# Altium footprint library ON Semiconductor Footprints.PcbLib: 123 footprints (part 6 of 8)
Each footprint in its own frame and in the unit in brackets; x right, y up, seen from the top. Pads: shape width x height; smd on the part's side, far side on the other; paste and mask are expansions set on the pad; w line width, h text height; cw(c..) or ccw(c..) is an arc to the next point about the centre after c.
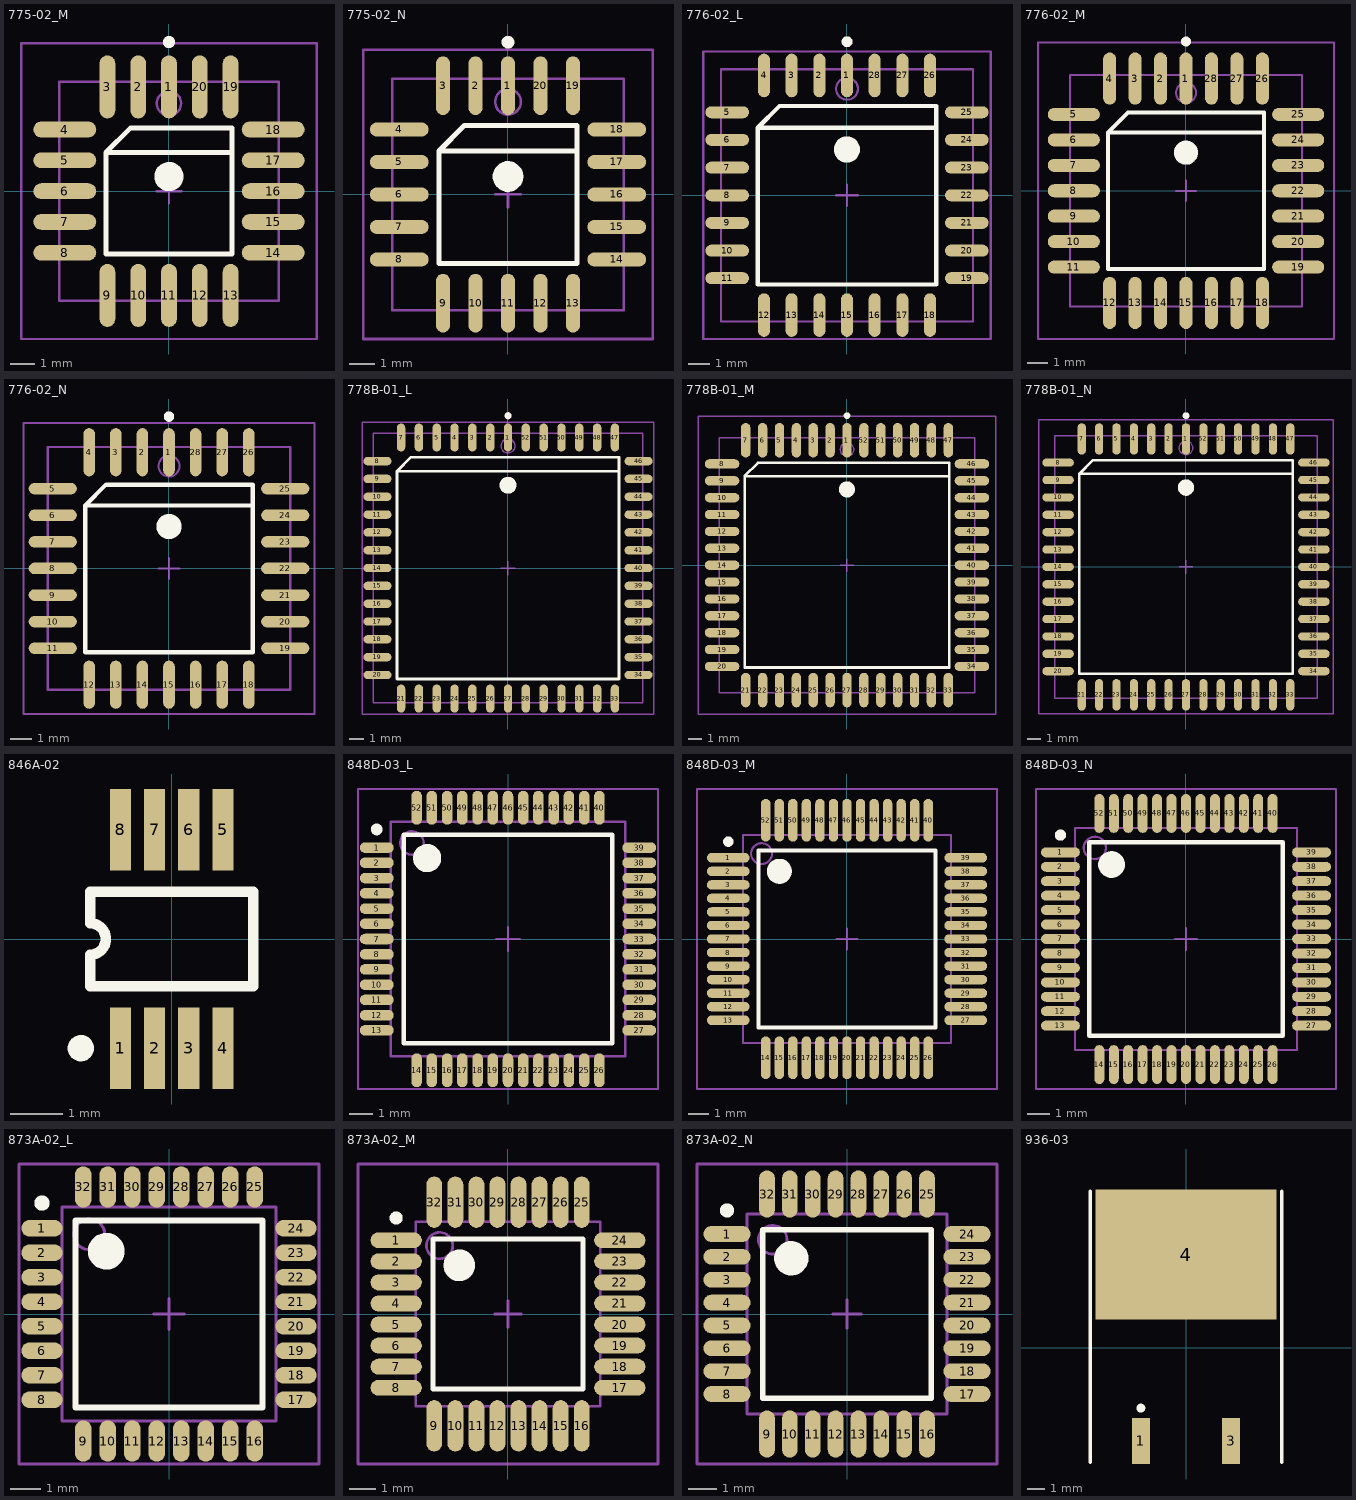
[diagram p5: the footprints below, top view; thin cyan lines are the x and y axes]

## 775-02_M [mm] "20-Pin Leaded Chip Carrier 1.27 mm Pitch, IPC Low Density"
height 4.57
pads (20):
  oval 0.65x2.6 smd: 1(0,4.3) 2(-1.27,4.3) 3(-2.54,4.3) 9(-2.54,-4.3) 10(-1.27,-4.3) 11(0,-4.3) 12(1.27,-4.3) 13(2.54,-4.3) 19(2.54,4.3) 20(1.27,4.3)
  oval 2.6x0.65 smd: 4(-4.3,2.54) 5(-4.3,1.27) 6(-4.3,0) 7(-4.3,-1.27) 8(-4.3,-2.54) 14(4.3,-2.54) 15(4.3,-1.27) 16(4.3,0) 17(4.3,1.27) 18(4.3,2.54)
Top Overlay:
  circle w0.6: c0,0.6 r0.3
  circle w0.25: c0,6.15 r0.125
  lines w0.2: 2.6,1.6 -2.6,1.6 ; -2.6,1.6 -2.6,-2.6 2.6,-2.6 2.6,2.6 -1.6,2.6 -2.6,1.6
Mechanical 13:
  circle w0.1: c0,3.62 r0.5
  lines w0.1: -4.52,-4.52 4.52,-4.52 4.52,4.52 -4.52,4.52 -4.52,-4.52
Mechanical 15:
  lines w0.1: -0.5,0 0.5,0 ; 0,-0.5 0,0.5 ; -6.1,-6.1 6.1,-6.1 6.1,6.1 -6.1,6.1 -6.1,-6.1
3D body: height 4.57, standoff 0, extent -4.52,-4.52 4.52,4.52

## 775-02_N [mm] "20-Pin Leaded Chip Carrier 1.27 mm Pitch, IPC Medium Density"
height 4.57
pads (20):
  oval 0.55x2.3 smd: 1(0,4.25) 2(-1.27,4.25) 3(-2.54,4.25) 9(-2.54,-4.25) 10(-1.27,-4.25) 11(0,-4.25) 12(1.27,-4.25) 13(2.54,-4.25) 19(2.54,4.25) 20(1.27,4.25)
  oval 2.3x0.55 smd: 4(-4.25,2.54) 5(-4.25,1.27) 6(-4.25,0) 7(-4.25,-1.27) 8(-4.25,-2.54) 14(4.25,-2.54) 15(4.25,-1.27) 16(4.25,0) 17(4.25,1.27) 18(4.25,2.54)
Top Overlay:
  circle w0.25: c0,5.95 r0.125
  circle w0.6: c0,0.7 r0.3
  lines w0.2: 2.7,1.7 -2.7,1.7 ; -2.7,1.7 -1.7,2.7 2.7,2.7 2.7,-2.7 -2.7,-2.7 -2.7,1.7
Mechanical 13:
  circle w0.1: c0,3.62 r0.5
  lines w0.1: -4.52,-4.52 -4.52,4.52 4.52,4.52 4.52,-4.52 -4.52,-4.52
Mechanical 15:
  lines w0.1: -0.5,0 0.5,0 ; 0,-0.5 0,0.5 ; -5.65,-5.65 -5.65,5.65 5.65,5.65 5.65,-5.65 -5.65,-5.65
3D body: height 4.57, standoff 0, extent -4.52,-4.52 4.52,4.52

## 776-02_L [mm] "28-Pin Leaded Chip Carrier 1.27 mm Pitch, IPC High Density"
height 4.57
pads (28):
  oval 0.55x2 smd: 1(0,5.5) 2(-1.27,5.5) 3(-2.54,5.5) 4(-3.81,5.5) 12(-3.81,-5.5) 13(-2.54,-5.5) 14(-1.27,-5.5) 15(0,-5.5) 16(1.27,-5.5) 17(2.54,-5.5) 18(3.81,-5.5) 26(3.81,5.5) 27(2.54,5.5) 28(1.27,5.5)
  oval 2x0.55 smd: 5(-5.5,3.81) 6(-5.5,2.54) 7(-5.5,1.27) 8(-5.5,0) 9(-5.5,-1.27) 10(-5.5,-2.54) 11(-5.5,-3.81) 19(5.5,-3.81) 20(5.5,-2.54) 21(5.5,-1.27) 22(5.5,0) 23(5.5,1.27) 24(5.5,2.54) 25(5.5,3.81)
Top Overlay:
  circle w0.25: c0,7.05 r0.125
  circle w0.6: c0,2.1 r0.3
  lines w0.2: 4.1,3.1 -4.1,3.1 ; -4.1,3.1 -3.1,4.1 4.1,4.1 4.1,-4.1 -4.1,-4.1 -4.1,3.1
Mechanical 13:
  circle w0.1: c0,4.89 r0.5
  lines w0.1: -5.79,-5.79 -5.79,5.79 5.79,5.79 5.79,-5.79 -5.79,-5.79
Mechanical 15:
  lines w0.1: -0.5,0 0.5,0 ; 0,-0.5 0,0.5 ; -6.6,-6.6 -6.6,6.6 6.6,6.6 6.6,-6.6 -6.6,-6.6
3D body: height 4.57, standoff 0, extent -5.79,-5.79 5.79,5.79

## 776-02_M [mm] "28-Pin Leaded Chip Carrier 1.27 mm Pitch, IPC Low Density"
height 4.57
pads (28):
  oval 0.65x2.6 smd: 1(0,5.6) 2(-1.27,5.6) 3(-2.54,5.6) 4(-3.81,5.6) 12(-3.81,-5.6) 13(-2.54,-5.6) 14(-1.27,-5.6) 15(0,-5.6) 16(1.27,-5.6) 17(2.54,-5.6) 18(3.81,-5.6) 26(3.81,5.6) 27(2.54,5.6) 28(1.27,5.6)
  oval 2.6x0.65 smd: 5(-5.6,3.81) 6(-5.6,2.54) 7(-5.6,1.27) 8(-5.6,0) 9(-5.6,-1.27) 10(-5.6,-2.54) 11(-5.6,-3.81) 19(5.6,-3.81) 20(5.6,-2.54) 21(5.6,-1.27) 22(5.6,0) 23(5.6,1.27) 24(5.6,2.54) 25(5.6,3.81)
Top Overlay:
  circle w0.25: c0,7.45 r0.125
  circle w0.6: c0,1.9 r0.3
  lines w0.2: 3.9,2.9 -3.9,2.9 ; -3.9,2.9 -2.9,3.9 3.9,3.9 3.9,-3.9 -3.9,-3.9 -3.9,2.9
Mechanical 13:
  circle w0.1: c0,4.89 r0.5
  lines w0.1: -5.79,-5.79 -5.79,5.79 5.79,5.79 5.79,-5.79 -5.79,-5.79
Mechanical 15:
  lines w0.1: -0.5,0 0.5,0 ; 0,-0.5 0,0.5 ; -7.4,-7.4 -7.4,7.4 7.4,7.4 7.4,-7.4 -7.4,-7.4
3D body: height 4.57, standoff 0, extent -5.79,-5.79 5.79,5.79

## 776-02_N [mm] "28-Pin Leaded Chip Carrier 1.27 mm Pitch, IPC Medium Density"
height 4.57
pads (28):
  oval 0.55x2.3 smd: 1(0,5.55) 2(-1.27,5.55) 3(-2.54,5.55) 4(-3.81,5.55) 12(-3.81,-5.55) 13(-2.54,-5.55) 14(-1.27,-5.55) 15(0,-5.55) 16(1.27,-5.55) 17(2.54,-5.55) 18(3.81,-5.55) 26(3.81,5.55) 27(2.54,5.55) 28(1.27,5.55)
  oval 2.3x0.55 smd: 5(-5.55,3.81) 6(-5.55,2.54) 7(-5.55,1.27) 8(-5.55,0) 9(-5.55,-1.27) 10(-5.55,-2.54) 11(-5.55,-3.81) 19(5.55,-3.81) 20(5.55,-2.54) 21(5.55,-1.27) 22(5.55,0) 23(5.55,1.27) 24(5.55,2.54) 25(5.55,3.81)
Top Overlay:
  circle w0.25: c0,7.25 r0.125
  circle w0.6: c0,2 r0.3
  lines w0.2: 4,3 -4,3 ; -4,3 -3,4 4,4 4,-4 -4,-4 -4,3
Mechanical 13:
  circle w0.1: c0,4.89 r0.5
  lines w0.1: -5.79,-5.79 -5.79,5.79 5.79,5.79 5.79,-5.79 -5.79,-5.79
Mechanical 15:
  lines w0.1: -0.5,0 0.5,0 ; 0,-0.5 0,0.5 ; -6.95,-6.95 -6.95,6.95 6.95,6.95 6.95,-6.95 -6.95,-6.95
3D body: height 4.57, standoff 0, extent -5.79,-5.79 5.79,5.79

## 778B-01_L [mm] "52-Pin Leaded Chip Carrier 1.27 mm Pitch, IPC High Density"
height 5.08
pads (52):
  oval 0.6x2 smd: 1(0,9.3) 2(-1.27,9.3) 3(-2.54,9.3) 4(-3.81,9.3) 5(-5.08,9.3) 6(-6.35,9.3) 7(-7.62,9.3) 21(-7.62,-9.3) 22(-6.35,-9.3) 23(-5.08,-9.3) 24(-3.81,-9.3) 25(-2.54,-9.3) 26(-1.27,-9.3) 27(0,-9.3) 28(1.27,-9.3) 29(2.54,-9.3) 30(3.81,-9.3) 31(5.08,-9.3) 32(6.35,-9.3) 33(7.62,-9.3) 47(7.62,9.3) 48(6.35,9.3) 49(5.08,9.3) 50(3.81,9.3) 51(2.54,9.3) 52(1.27,9.3)
  oval 2x0.6 smd: 8(-9.3,7.62) 9(-9.3,6.35) 10(-9.3,5.08) 11(-9.3,3.81) 12(-9.3,2.54) 13(-9.3,1.27) 14(-9.3,0) 15(-9.3,-1.27) 16(-9.3,-2.54) 17(-9.3,-3.81) 18(-9.3,-5.08) 19(-9.3,-6.35) 20(-9.3,-7.62) 34(9.3,-7.62) 35(9.3,-6.35) 36(9.3,-5.08) 37(9.3,-3.81) 38(9.3,-2.54) 39(9.3,-1.27) 40(9.3,0) 41(9.3,1.27) 42(9.3,2.54) 43(9.3,3.81) 44(9.3,5.08) 45(9.3,6.35) 46(9.3,7.62)
Top Overlay:
  circle w0.25: c0,10.85 r0.125
  circle w0.6: c0,5.9 r0.3
  lines w0.2: 7.9,6.9 -7.9,6.9 ; -7.9,6.9 -6.9,7.9 7.9,7.9 7.9,-7.9 -7.9,-7.9 -7.9,6.9
Mechanical 13:
  circle w0.1: c0,8.7 r0.5
  lines w0.1: -9.6,-9.6 -9.6,9.6 9.6,9.6 9.6,-9.6 -9.6,-9.6
Mechanical 15:
  lines w0.1: -0.5,0 0.5,0 ; 0,-0.5 0,0.5 ; -10.4,-10.4 -10.4,10.4 10.4,10.4 10.4,-10.4 -10.4,-10.4
3D body: height 5.08, standoff 0, extent -9.6,-9.6 9.6,9.6

## 778B-01_M [mm] "52-Pin Leaded Chip Carrier 1.27 mm Pitch, IPC Low Density"
height 5.08
pads (52):
  oval 0.7x2.6 smd: 1(0,9.4) 2(-1.27,9.4) 3(-2.54,9.4) 4(-3.81,9.4) 5(-5.08,9.4) 6(-6.35,9.4) 7(-7.62,9.4) 21(-7.62,-9.4) 22(-6.35,-9.4) 23(-5.08,-9.4) 24(-3.81,-9.4) 25(-2.54,-9.4) 26(-1.27,-9.4) 27(0,-9.4) 28(1.27,-9.4) 29(2.54,-9.4) 30(3.81,-9.4) 31(5.08,-9.4) 32(6.35,-9.4) 33(7.62,-9.4) 47(7.62,9.4) 48(6.35,9.4) 49(5.08,9.4) 50(3.81,9.4) 51(2.54,9.4) 52(1.27,9.4)
  oval 2.6x0.7 smd: 8(-9.4,7.62) 9(-9.4,6.35) 10(-9.4,5.08) 11(-9.4,3.81) 12(-9.4,2.54) 13(-9.4,1.27) 14(-9.4,0) 15(-9.4,-1.27) 16(-9.4,-2.54) 17(-9.4,-3.81) 18(-9.4,-5.08) 19(-9.4,-6.35) 20(-9.4,-7.62) 34(9.4,-7.62) 35(9.4,-6.35) 36(9.4,-5.08) 37(9.4,-3.81) 38(9.4,-2.54) 39(9.4,-1.27) 40(9.4,0) 41(9.4,1.27) 42(9.4,2.54) 43(9.4,3.81) 44(9.4,5.08) 45(9.4,6.35) 46(9.4,7.62)
Top Overlay:
  circle w0.25: c0,11.25 r0.125
  circle w0.6: c0,5.7 r0.3
  lines w0.2: 7.7,6.7 -7.7,6.7 ; -7.7,6.7 -6.7,7.7 7.7,7.7 7.7,-7.7 -7.7,-7.7 -7.7,6.7
Mechanical 13:
  circle w0.1: c0,8.7 r0.5
  lines w0.1: -9.6,-9.6 -9.6,9.6 9.6,9.6 9.6,-9.6 -9.6,-9.6
Mechanical 15:
  lines w0.1: -0.5,0 0.5,0 ; 0,-0.5 0,0.5 ; -11.2,-11.2 -11.2,11.2 11.2,11.2 11.2,-11.2 -11.2,-11.2
3D body: height 5.08, standoff 0, extent -9.6,-9.6 9.6,9.6

## 778B-01_N [mm] "52-Pin Leaded Chip Carrier 1.27 mm Pitch, IPC Medium Density"
height 5.08
pads (52):
  oval 0.6x2.3 smd: 1(0,9.35) 2(-1.27,9.35) 3(-2.54,9.35) 4(-3.81,9.35) 5(-5.08,9.35) 6(-6.35,9.35) 7(-7.62,9.35) 21(-7.62,-9.35) 22(-6.35,-9.35) 23(-5.08,-9.35) 24(-3.81,-9.35) 25(-2.54,-9.35) 26(-1.27,-9.35) 27(0,-9.35) 28(1.27,-9.35) 29(2.54,-9.35) 30(3.81,-9.35) 31(5.08,-9.35) 32(6.35,-9.35) 33(7.62,-9.35) 47(7.62,9.35) 48(6.35,9.35) 49(5.08,9.35) 50(3.81,9.35) 51(2.54,9.35) 52(1.27,9.35)
  oval 2.3x0.6 smd: 8(-9.35,7.62) 9(-9.35,6.35) 10(-9.35,5.08) 11(-9.35,3.81) 12(-9.35,2.54) 13(-9.35,1.27) 14(-9.35,0) 15(-9.35,-1.27) 16(-9.35,-2.54) 17(-9.35,-3.81) 18(-9.35,-5.08) 19(-9.35,-6.35) 20(-9.35,-7.62) 34(9.35,-7.62) 35(9.35,-6.35) 36(9.35,-5.08) 37(9.35,-3.81) 38(9.35,-2.54) 39(9.35,-1.27) 40(9.35,0) 41(9.35,1.27) 42(9.35,2.54) 43(9.35,3.81) 44(9.35,5.08) 45(9.35,6.35) 46(9.35,7.62)
Top Overlay:
  circle w0.25: c0,11.05 r0.125
  circle w0.6: c0,5.8 r0.3
  lines w0.2: 7.8,6.8 -7.8,6.8 ; -7.8,6.8 -6.8,7.8 7.8,7.8 7.8,-7.8 -7.8,-7.8 -7.8,6.8
Mechanical 13:
  circle w0.1: c0,8.7 r0.5
  lines w0.1: -9.6,-9.6 -9.6,9.6 9.6,9.6 9.6,-9.6 -9.6,-9.6
Mechanical 15:
  lines w0.1: -0.5,0 0.5,0 ; 0,-0.5 0,0.5 ; -10.75,-10.75 -10.75,10.75 10.75,10.75 10.75,-10.75 -10.75,-10.75
3D body: height 5.08, standoff 0, extent -9.6,-9.6 9.6,9.6

## 846A-02 [mm] "Shrink Small Outline; 8 Leads; Body Width 3 mm; Pitch 0.65 mm"
height 1.1
pads (8):
  rect 0.4x1.55 smd: 1(-0.975,-2.075) 2(-0.325,-2.075) 3(0.325,-2.075) 4(0.975,-2.075) 5(0.975,2.075) 6(0.325,2.075) 7(-0.325,2.075) 8(-0.975,2.075)
Top Overlay:
  circle w0.25: c-1.725,-2.075 r0.125
  lines w0.2: -1.55,-0.9 1.55,-0.9 1.55,0.9 -1.55,0.9 -1.55,0.3 cw(c-1.55,0) -1.55,-0.3 -1.55,-0.9

## 848D-03_L [mm] "52-Pin Quad Flat Pack 0.65 mm Pitch, IPC High Density"
height 1.7
pads (52):
  oval 1.45x0.45 smd: 1(-5.6,3.9) 2(-5.6,3.25) 3(-5.6,2.6) 4(-5.6,1.95) 5(-5.6,1.3) 6(-5.6,0.65) 7(-5.6,0) 8(-5.6,-0.65) 9(-5.6,-1.3) 10(-5.6,-1.95) 11(-5.6,-2.6) 12(-5.6,-3.25) 13(-5.6,-3.9) 27(5.6,-3.9) 28(5.6,-3.25) 29(5.6,-2.6) 30(5.6,-1.95) 31(5.6,-1.3) 32(5.6,-0.65) 33(5.6,0) 34(5.6,0.65) 35(5.6,1.3) 36(5.6,1.95) 37(5.6,2.6) 38(5.6,3.25) 39(5.6,3.9)
  oval 0.45x1.45 smd: 14(-3.9,-5.6) 15(-3.25,-5.6) 16(-2.6,-5.6) 17(-1.95,-5.6) 18(-1.3,-5.6) 19(-0.65,-5.6) 20(0,-5.6) 21(0.65,-5.6) 22(1.3,-5.6) 23(1.95,-5.6) 24(2.6,-5.6) 25(3.25,-5.6) 26(3.9,-5.6) 40(3.9,5.6) 41(3.25,5.6) 42(2.6,5.6) 43(1.95,5.6) 44(1.3,5.6) 45(0.65,5.6) 46(0,5.6) 47(-0.65,5.6) 48(-1.3,5.6) 49(-1.95,5.6) 50(-2.6,5.6) 51(-3.25,5.6) 52(-3.9,5.6)
Top Overlay:
  circle w0.25: c-5.6,4.675 r0.125
  circle w0.6: c-3.45,3.45 r0.3
  lines w0.2: -4.45,-4.45 -4.45,4.45 4.45,4.45 4.45,-4.45 -4.45,-4.45
Mechanical 13:
  circle w0.1: c-4.1,4.1 r0.5
  lines w0.1: -5,-5 -5,5 5,5 5,-5 -5,-5
Mechanical 15:
  lines w0.1: -0.5,0 0.5,0 ; 0,-0.5 0,0.5 ; -6.4,-6.4 -6.4,6.4 6.4,6.4 6.4,-6.4 -6.4,-6.4
3D body: height 1.7, standoff 0, extent -5,-5 5,5

## 848D-03_M [mm] "52-Pin Quad Flat Pack 0.65 mm Pitch, IPC Low Density"
height 1.7
pads (52):
  oval 2.05x0.45 smd: 1(-5.7,3.9) 2(-5.7,3.25) 3(-5.7,2.6) 4(-5.7,1.95) 5(-5.7,1.3) 6(-5.7,0.65) 7(-5.7,0) 8(-5.7,-0.65) 9(-5.7,-1.3) 10(-5.7,-1.95) 11(-5.7,-2.6) 12(-5.7,-3.25) 13(-5.7,-3.9) 27(5.7,-3.9) 28(5.7,-3.25) 29(5.7,-2.6) 30(5.7,-1.95) 31(5.7,-1.3) 32(5.7,-0.65) 33(5.7,0) 34(5.7,0.65) 35(5.7,1.3) 36(5.7,1.95) 37(5.7,2.6) 38(5.7,3.25) 39(5.7,3.9)
  oval 0.45x2.05 smd: 14(-3.9,-5.7) 15(-3.25,-5.7) 16(-2.6,-5.7) 17(-1.95,-5.7) 18(-1.3,-5.7) 19(-0.65,-5.7) 20(0,-5.7) 21(0.65,-5.7) 22(1.3,-5.7) 23(1.95,-5.7) 24(2.6,-5.7) 25(3.25,-5.7) 26(3.9,-5.7) 40(3.9,5.7) 41(3.25,5.7) 42(2.6,5.7) 43(1.95,5.7) 44(1.3,5.7) 45(0.65,5.7) 46(0,5.7) 47(-0.65,5.7) 48(-1.3,5.7) 49(-1.95,5.7) 50(-2.6,5.7) 51(-3.25,5.7) 52(-3.9,5.7)
Top Overlay:
  circle w0.25: c-5.7,4.675 r0.125
  circle w0.6: c-3.25,3.25 r0.3
  lines w0.2: -4.25,-4.25 -4.25,4.25 4.25,4.25 4.25,-4.25 -4.25,-4.25
Mechanical 13:
  circle w0.1: c-4.1,4.1 r0.5
  lines w0.1: -5,-5 -5,5 5,5 5,-5 -5,-5
Mechanical 15:
  lines w0.1: -0.5,0 0.5,0 ; 0,-0.5 0,0.5 ; -7.2,-7.2 -7.2,7.2 7.2,7.2 7.2,-7.2 -7.2,-7.2
3D body: height 1.7, standoff 0, extent -5,-5 5,5

## 848D-03_N [mm] "52-Pin Quad Flat Pack 0.65 mm Pitch, IPC Medium Density"
height 1.7
pads (52):
  oval 1.75x0.45 smd: 1(-5.65,3.9) 2(-5.65,3.25) 3(-5.65,2.6) 4(-5.65,1.95) 5(-5.65,1.3) 6(-5.65,0.65) 7(-5.65,0) 8(-5.65,-0.65) 9(-5.65,-1.3) 10(-5.65,-1.95) 11(-5.65,-2.6) 12(-5.65,-3.25) 13(-5.65,-3.9) 27(5.65,-3.9) 28(5.65,-3.25) 29(5.65,-2.6) 30(5.65,-1.95) 31(5.65,-1.3) 32(5.65,-0.65) 33(5.65,0) 34(5.65,0.65) 35(5.65,1.3) 36(5.65,1.95) 37(5.65,2.6) 38(5.65,3.25) 39(5.65,3.9)
  oval 0.45x1.75 smd: 14(-3.9,-5.65) 15(-3.25,-5.65) 16(-2.6,-5.65) 17(-1.95,-5.65) 18(-1.3,-5.65) 19(-0.65,-5.65) 20(0,-5.65) 21(0.65,-5.65) 22(1.3,-5.65) 23(1.95,-5.65) 24(2.6,-5.65) 25(3.25,-5.65) 26(3.9,-5.65) 40(3.9,5.65) 41(3.25,5.65) 42(2.6,5.65) 43(1.95,5.65) 44(1.3,5.65) 45(0.65,5.65) 46(0,5.65) 47(-0.65,5.65) 48(-1.3,5.65) 49(-1.95,5.65) 50(-2.6,5.65) 51(-3.25,5.65) 52(-3.9,5.65)
Top Overlay:
  circle w0.25: c-5.65,4.675 r0.125
  circle w0.6: c-3.35,3.35 r0.3
  lines w0.2: -4.35,-4.35 -4.35,4.35 4.35,4.35 4.35,-4.35 -4.35,-4.35
Mechanical 13:
  circle w0.1: c-4.1,4.1 r0.5
  lines w0.1: -5,-5 -5,5 5,5 5,-5 -5,-5
Mechanical 15:
  lines w0.1: -0.5,0 0.5,0 ; 0,-0.5 0,0.5 ; -6.75,-6.75 -6.75,6.75 6.75,6.75 6.75,-6.75 -6.75,-6.75
3D body: height 1.7, standoff 0, extent -5,-5 5,5

## 873A-02_L [mm] "32-Pin Thin Quad Flat Pack 0.8 mm Pitch, IPC High Density"
height 1.6
pads (32):
  oval 1.35x0.55 smd: 1(-4.15,2.8) 2(-4.15,2) 3(-4.15,1.2) 4(-4.15,0.4) 5(-4.15,-0.4) 6(-4.15,-1.2) 7(-4.15,-2) 8(-4.15,-2.8) 17(4.15,-2.8) 18(4.15,-2) 19(4.15,-1.2) 20(4.15,-0.4) 21(4.15,0.4) 22(4.15,1.2) 23(4.15,2) 24(4.15,2.8)
  oval 0.55x1.35 smd: 9(-2.8,-4.15) 10(-2,-4.15) 11(-1.2,-4.15) 12(-0.4,-4.15) 13(0.4,-4.15) 14(1.2,-4.15) 15(2,-4.15) 16(2.8,-4.15) 25(2.8,4.15) 26(2,4.15) 27(1.2,4.15) 28(0.4,4.15) 29(-0.4,4.15) 30(-1.2,4.15) 31(-2,4.15) 32(-2.8,4.15)
Top Overlay:
  circle w0.25: c-4.15,3.625 r0.125
  circle w0.6: c-2.05,2.05 r0.3
  lines w0.2: -3.05,-3.05 -3.05,3.05 3.05,3.05 3.05,-3.05 -3.05,-3.05
Mechanical 13:
  circle w0.1: c-2.6,2.6 r0.5
  lines w0.1: -3.5,-3.5 -3.5,3.5 3.5,3.5 3.5,-3.5 -3.5,-3.5
Mechanical 15:
  lines w0.1: -0.5,0 0.5,0 ; 0,-0.5 0,0.5 ; -4.9,-4.9 -4.9,4.9 4.9,4.9 4.9,-4.9 -4.9,-4.9
3D body: height 1.6, standoff 0, extent -3.5,-3.5 3.5,3.5

## 873A-02_M [mm] "32-Pin Thin Quad Flat Pack 0.8 mm Pitch, IPC Low Density"
height 1.6
pads (32):
  oval 1.95x0.6 smd: 1(-4.25,2.8) 2(-4.25,2) 3(-4.25,1.2) 4(-4.25,0.4) 5(-4.25,-0.4) 6(-4.25,-1.2) 7(-4.25,-2) 8(-4.25,-2.8) 17(4.25,-2.8) 18(4.25,-2) 19(4.25,-1.2) 20(4.25,-0.4) 21(4.25,0.4) 22(4.25,1.2) 23(4.25,2) 24(4.25,2.8)
  oval 0.6x1.95 smd: 9(-2.8,-4.25) 10(-2,-4.25) 11(-1.2,-4.25) 12(-0.4,-4.25) 13(0.4,-4.25) 14(1.2,-4.25) 15(2,-4.25) 16(2.8,-4.25) 25(2.8,4.25) 26(2,4.25) 27(1.2,4.25) 28(0.4,4.25) 29(-0.4,4.25) 30(-1.2,4.25) 31(-2,4.25) 32(-2.8,4.25)
Top Overlay:
  circle w0.25: c-4.25,3.65 r0.125
  circle w0.6: c-1.85,1.85 r0.3
  lines w0.2: -2.85,-2.85 -2.85,2.85 2.85,2.85 2.85,-2.85 -2.85,-2.85
Mechanical 13:
  circle w0.1: c-2.6,2.6 r0.5
  lines w0.1: -3.5,-3.5 -3.5,3.5 3.5,3.5 3.5,-3.5 -3.5,-3.5
Mechanical 15:
  lines w0.1: -0.5,0 0.5,0 ; 0,-0.5 0,0.5 ; -5.7,-5.7 -5.7,5.7 5.7,5.7 5.7,-5.7 -5.7,-5.7
3D body: height 1.6, standoff 0, extent -3.5,-3.5 3.5,3.5

## 873A-02_N [mm] "32-Pin Thin Quad Flat Pack 0.8 mm Pitch, IPC Medium Density"
height 1.6
pads (32):
  oval 1.65x0.55 smd: 1(-4.2,2.8) 2(-4.2,2) 3(-4.2,1.2) 4(-4.2,0.4) 5(-4.2,-0.4) 6(-4.2,-1.2) 7(-4.2,-2) 8(-4.2,-2.8) 17(4.2,-2.8) 18(4.2,-2) 19(4.2,-1.2) 20(4.2,-0.4) 21(4.2,0.4) 22(4.2,1.2) 23(4.2,2) 24(4.2,2.8)
  oval 0.55x1.65 smd: 9(-2.8,-4.2) 10(-2,-4.2) 11(-1.2,-4.2) 12(-0.4,-4.2) 13(0.4,-4.2) 14(1.2,-4.2) 15(2,-4.2) 16(2.8,-4.2) 25(2.8,4.2) 26(2,4.2) 27(1.2,4.2) 28(0.4,4.2) 29(-0.4,4.2) 30(-1.2,4.2) 31(-2,4.2) 32(-2.8,4.2)
Top Overlay:
  circle w0.6: c-1.95,1.95 r0.3
  circle w0.25: c-4.2,3.625 r0.125
  lines w0.2: -2.95,-2.95 2.95,-2.95 2.95,2.95 -2.95,2.95 -2.95,-2.95
Mechanical 13:
  circle w0.1: c-2.6,2.6 r0.5
  lines w0.1: -3.5,-3.5 3.5,-3.5 3.5,3.5 -3.5,3.5 -3.5,-3.5
Mechanical 15:
  lines w0.1: -0.5,0 0.5,0 ; 0,-0.5 0,0.5 ; -5.25,-5.25 5.25,-5.25 5.25,5.25 -5.25,5.25 -5.25,-5.25
3D body: height 1.6, standoff 0, extent -3.5,-3.5 3.5,3.5

## 936-03 [mm] "D2-PAK/TO-263-AB; 3 Leads (1 Cropped); Body 14.7 (inc. leads) x 10.2 mm (LxW max)"
height 4.58
pads (3):
  rect 1x2.6 smd: 1(-2.54,-5.25) 3(2.54,-5.25)
  rect 10.2x7.3 smd: 4(0,5.25)
Top Overlay:
  circle w0.25: c-2.54,-3.4 r0.125
  lines w0.2: -5.4,-6.45 -5.4,8.8 ; 5.4,-6.45 5.4,8.8